# EAGLE library part ATMEGA328P (library IC)
uC used in the Arduino 32kb flash, 1k EEPROM, 2k SRAM This is the through-hole version of this chip.
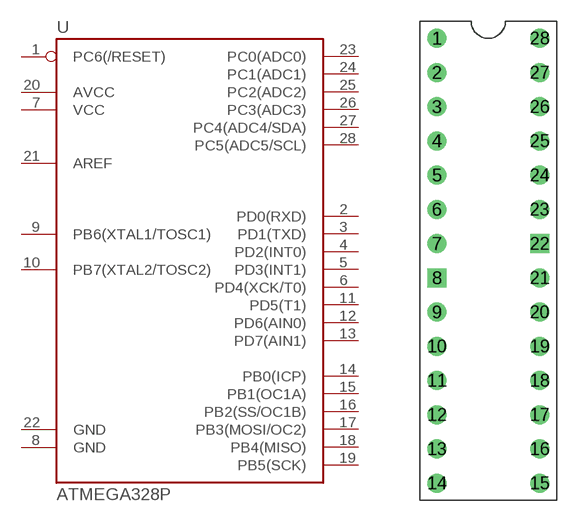
[diagram p4: symbol with the pads of DIL28-W0.3-G8,22; footprint DIL28-W0.3-G8,22]

Designator prefix U

## ATMEGA328P  [DIL28-W0.3-G8,22]
1  PC6(/RESET)
2  PD0(RXD)
3  PD1(TXD)
4  PD2(INT0)
5  PD3(INT1)
6  PD4(XCK/T0)
7  VCC
8  GND
9  PB6(XTAL1/TOSC1)
10  PB7(XTAL2/TOSC2)
11  PD5(T1)
12  PD6(AIN0)
13  PD7(AIN1)
14  PB0(ICP)
15  PB1(OC1A)
16  PB2(SS/OC1B)
17  PB3(MOSI/OC2)
18  PB4(MISO)
19  PB5(SCK)
20  AVCC
21  AREF
22  GND
23  PC0(ADC0)
24  PC1(ADC1)
25  PC2(ADC2)
26  PC3(ADC3)
27  PC4(ADC4/SDA)
28  PC5(ADC5/SCL)

## Footprint DIL28-W0.3-G8,22 (pad centres in mm)
Standard 28-pin DIP package. IC needs to have legs bent before insertion.
drill 0.9: 1 0,33.02; 2 0,30.48; 3 0,27.94; 4 0,25.4; 5 0,22.86; 6 0,20.32; 7 0,17.78; 9 0,12.7; 10 0,10.16; 11 0,7.62; 12 0,5.08; 13 0,2.54; 14 0,0; 15 7.62,0; 16 7.62,2.54; 17 7.62,5.08; 18 7.62,7.62; 19 7.62,10.16; 20 7.62,12.7; 21 7.62,15.24; 23 7.62,20.32; 24 7.62,22.86; 25 7.62,25.4; 26 7.62,27.94; 27 7.62,30.48; 28 7.62,33.02
drill 0.9 square: 8 0,15.24; 22 7.62,17.78